# Altium footprint library S4B-PH-K-S(LF)(SN).PcbLib: 1 footprints
Each footprint in its own frame and in the unit in brackets; x right, y up, seen from the top. Pads: shape width x height; smd on the part's side, far side on the other; paste and mask are expansions set on the pad; w line width, h text height; cw(c..) or ccw(c..) is an arc to the next point about the centre after c.
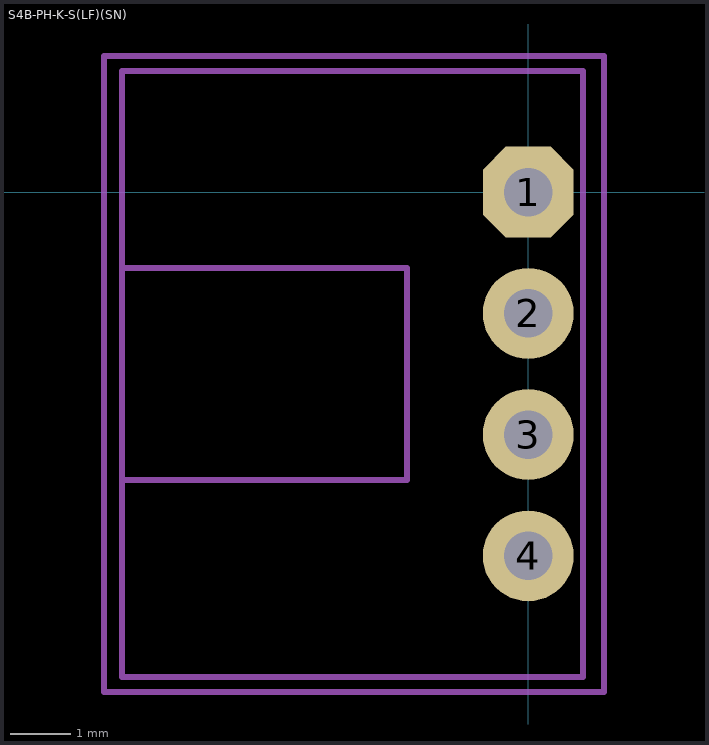
[diagram p0: the footprint, top view; thin cyan lines are the x and y axes]

## S4B-PH-K-S(LF)(SN) [mm]
pads (4):
  oct 1.5x1.5 hole 0.8 mask+0.05: 1(0,0)
  round 1.5 hole 0.8 mask+0.05: 2(0,-2) 3(0,-4) 4(0,-6)
Top Assembly:
  lines w0.1: -6.7,-4.75 -2,-4.75 -2,-1.25 -6.7,-1.25 ; -6.7,-8 -6.7,2 0.9,2 0.9,-8 -6.7,-8
Top Courtyard:
  lines w0.1: -7,-8.25 -7,2.25 1.25,2.25 1.25,-8.25 -7,-8.25
3D body "User Library-PCB HEADER (JST SxB-PH-K-S (RIGHT ANGLE)).step": height 4.8, standoff -2, extent -6.725,-7.95 0.875,1.95